# EAGLE library part M8_6P_CONNECTOR (library circular_conn)
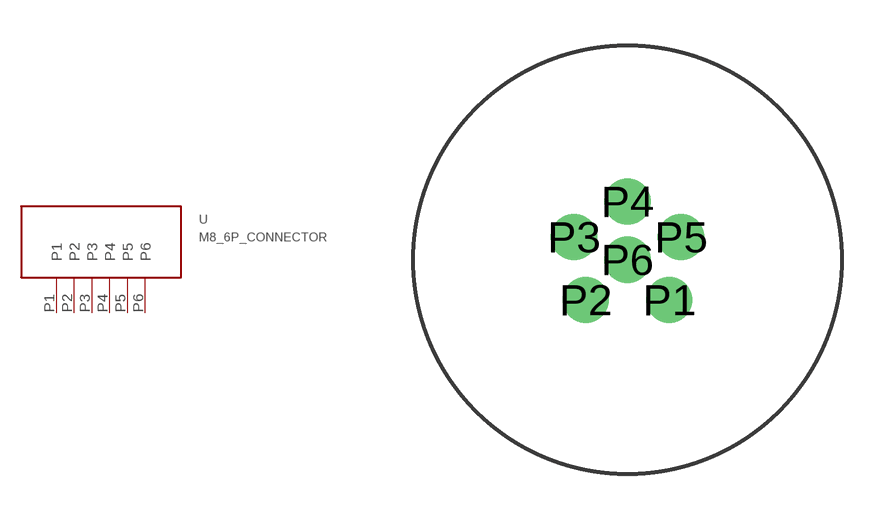
[diagram p0: symbol with the pads of M8_6P_VERT; footprint M8_6P_VERT]

Designator prefix -

## M8_6P_CONNECTOR  [M8_6P_VERT]
P1  P1
P2  P2
P3  P3
P4  P4
P5  P5
P6  P6

## Footprint M8_6P_VERT (pad centres in mm)
drill 1: P1 1.365,-1.32; P2 -1.365,-1.32; P3 -1.75,0.74; P4 0,1.9; P5 1.75,0.74; P6 0,0